# Altium footprint library PcbLib1.PcbLib: 8 footprints
Each footprint in its own frame and in the unit in brackets; x right, y up, seen from the top. Pads: shape width x height; smd on the part's side, far side on the other; paste and mask are expansions set on the pad; w line width, h text height; cw(c..) or ccw(c..) is an arc to the next point about the centre after c.
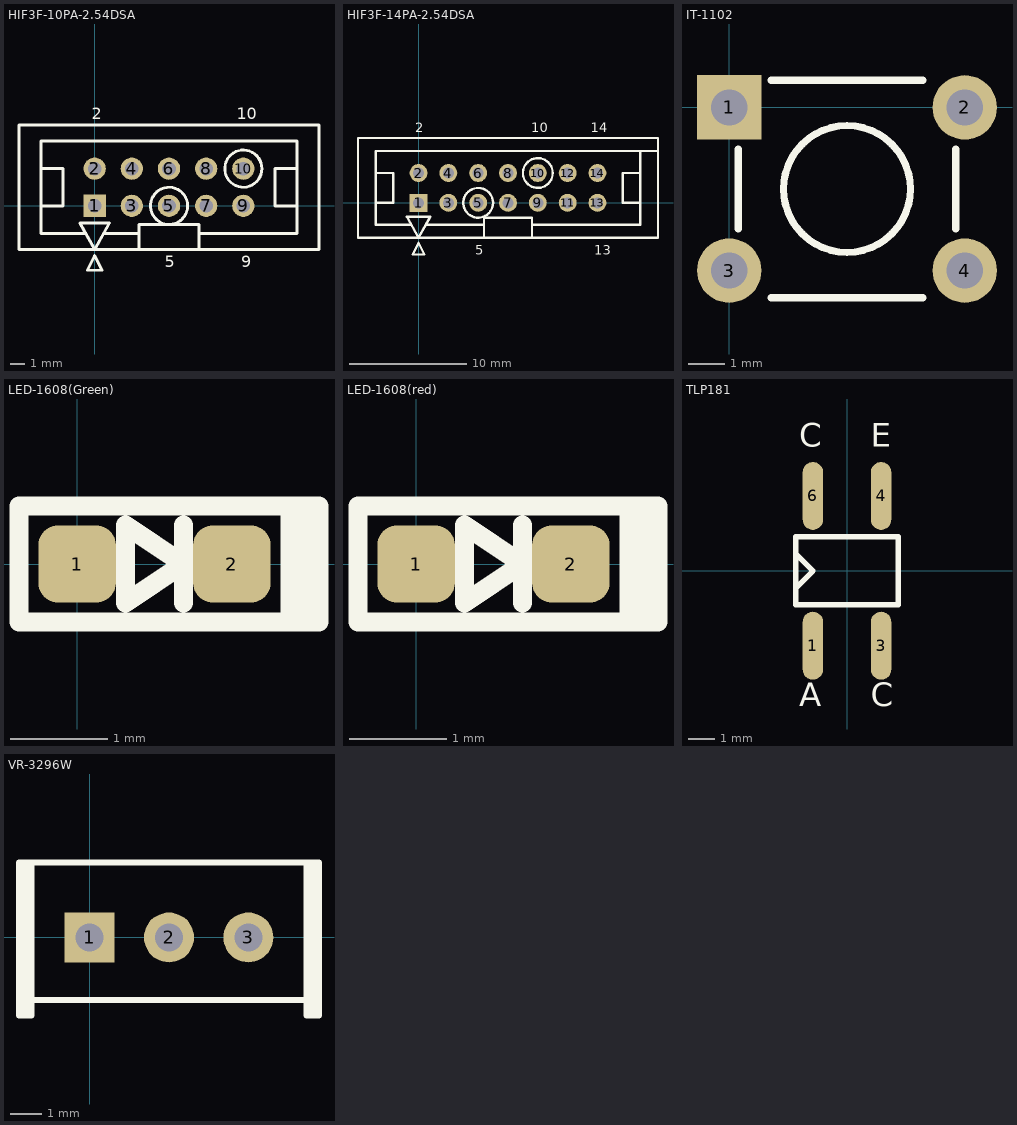
[diagram p0: the footprints below, top view; thin cyan lines are the x and y axes]

## HIF3F-10PA-2.54DSA [mil]
pads (10):
  rect 60x60 hole 37: 1(0,0)
  round 60 hole 37: 2(0,100) 3(100,0) 4(100,100) 5(200,0) 6(200,100) 7(300,0) 8(300,100) 9(400,0) 10(400,100)
Top Overlay:
  circle w7.87: c200,0 r50
  circle w7.87: c400,100 r50
  lines w7.87: -144.49,0 -85.43,0 -85.43,100 -144.49,100 ; -24.02,-74.02 -144.49,-74.02 -144.49,174.02 544.49,174.02 544.49,-74.02 280.71,-74.02 ; 24.02,-74.02 119.29,-74.02 ; 119.29,-117.32 119.29,-50 280.71,-50 280.71,-117.32 ; 544.49,0 485.43,0 485.43,100 544.49,100 ; -203.54,-117.32 603.54,-117.32 603.54,217.32 -203.54,217.32 -203.54,-117.32 ; -39.37,-46.46 0,-117.32 39.37,-46.46 -39.37,-46.46 ; -19.68,-173.23 19.68,-173.23 0,-133.86 -19.68,-173.23
  text "5" at 188.98,-165.35 h31.5
  text "10" at 381.89,232.28 h31.5
  text "9" at 393.7,-165.35 h31.5
  text "2" at -7.87,232.28 h31.5
3D body "HIF3F-10PA.step": height 352, standoff -148, extent -200,-125 600,225

## HIF3F-14PA-2.54DSA [mil]
pads (14):
  rect 60x60 hole 37: 1(0,0)
  round 60 hole 37: 2(0,100) 3(100,0) 4(100,100) 5(200,0) 6(200,100) 7(300,0) 8(300,100) 9(400,0) 10(400,100) 11(500,0) 12(500,100) 13(600,0) 14(600,100)
Top Overlay:
  circle w7.87: c400,100 r50
  circle w7.87: c200,0 r50
  lines w7.87: -144.09,0 -85.04,0 -85.04,100 -144.09,100 ; -24.02,-74.02 -144.09,-74.02 -144.09,174.02 803.15,174.02 ; 24.02,-74.02 219.29,-74.02 ; 219.29,-117.32 219.29,-50 380.71,-50 380.71,-117.32 ; 380.71,-74.02 744.09,-74.02 744.09,174.02 ; 744.09,0 685.04,0 685.04,100 744.09,100 ; -203.15,-117.32 -203.15,217.32 803.15,217.32 803.15,-117.32 -203.15,-117.32 ; -39.37,-46.46 39.37,-46.46 0,-117.32 -39.37,-46.46 ; -19.68,-173.23 0,-133.86 19.68,-173.23 -19.68,-173.23
  text "2" at -11.81,236.22 h31.5
  text "10" at 377.95,236.22 h31.5
  text "5" at 190,-175 h31.5
  text "14" at 577.95,236.22 h31.5
  text "13" at 590,-175 h31.5

## IT-1102 [mil]
height 169.29
pads (4):
  rect 70x70 hole 39.37: 1(0,0)
  round 70 hole 39.37: 2(255.91,0) 3(0,-177.17) 4(255.91,-177.17)
Top Overlay:
  circle w7.87: c127.95,-88.58 r68.9
  lines w7.87: 9.84,-131.89 9.84,-45.28 ; 45.28,-206.69 210.63,-206.69 ; 45.28,29.53 210.63,29.53 ; 246.06,-131.89 246.06,-45.28
3D body "IT-1102-Yale.STEP": height 193.31, standoff -91.73, extent -5.9,-206.73 261.81,29.53

## LED-1608(Green) [mm]
pads (2):
  rrect50% 0.8x0.8 smd: 1(0,0) 2(1.6,0)
Top Overlay:
  lines w0.2: 1.1,-0.4 1.1,0.4 ; 2.2,-0.6 2.2,0.6 ; 2.3,-0.6 2.3,0.6 ; 2.4,-0.6 2.4,0.6 ; -0.6,-0.6 -0.6,0.6 2.5,0.6 2.5,-0.6 -0.6,-0.6 ; 0.5,-0.4 1.1,0 0.5,0.4 0.5,-0.4
3D body "LED-1608(Green).STEP": height 0.78, standoff -0.02, extent 0,-0.4 1.6,0.4

## LED-1608(red) [mm]
pads (2):
  rrect50% 0.8x0.8 smd: 1(0,0) 2(1.6,0)
Top Overlay:
  lines w0.2: 1.1,-0.4 1.1,0.4 ; 2.2,-0.6 2.2,0.6 ; 2.3,-0.6 2.3,0.6 ; 2.4,-0.6 2.4,0.6 ; -0.6,-0.6 -0.6,0.6 2.5,0.6 2.5,-0.6 -0.6,-0.6 ; 0.5,-0.4 1.1,0 0.5,0.4 0.5,-0.4
3D body "LED-1608(Red).STEP": height 0.78, standoff -0.02, extent 0,-0.4 1.6,0.4

## PCBComponent_1 [mil]

## TLP181 [mil]
height 2.5
pads (4):
  oval 30x99.69 smd: 1(-50,-109.84) 3(50,-109.84) 4(50,109.84) 6(-50,109.84)
Top Overlay:
  lines w8: -75,-25 -50,0 -75,25 ; -75,-50 -75,50 75,50 75,-50 -75,-50
  text "C" at -70,170 h60
  text "E" at 35,170 h60
  text "C" at 35,-210 h60
  text "A" at -70,-210 h60
3D body "TLP-181-Yale.STEP": height 90.59, standoff 0, extent -70.86,-137.79 70.87,137.8

## VR-3296W [mm]
height 11.5
pads (3):
  rect 1.6x1.6 hole 0.9: 1(0,0)
  round 1.6 hole 0.9: 2(2.54,0) 3(5.08,0)
Top Overlay:
  lines w0.2: -2.06,-2.5 -2.06,2.4 ; -1.86,2.4 -1.86,-2.5 -2.26,-2.5 -2.26,-2 ; 6.94,2.4 6.94,-2 6.94,-2.5 7.34,-2.5 7.34,-2 ; 7.14,-2.5 7.14,2.4 ; -2.26,-2 7.34,-2 ; -2.26,-2 -2.26,2.4 7.34,2.4 7.34,-2
3D body "VR-3296W-Yale.STEP": height 11.55, standoff -2.53, extent -2.225,-2.41 7.305,2.41